# EAGLE library part AD8426ACPZ-R7 (library AD8426)
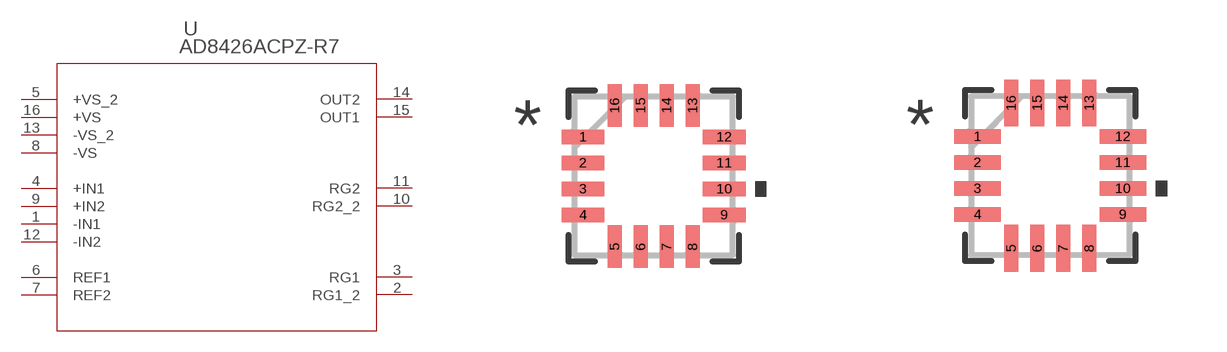
[diagram p0: symbol with the pads of CP_16_19; footprints CP_16_19, CP_16_19-M]

Designator prefix U

## AD8426ACPZ-R7 (MANUFACTURER_PART_NUMBER: AD8426ACPZR7; VENDOR: Analog Devices Inc)  [CP_16_19]
1  -IN1  pas
2  RG1_2  pas
3  RG1  pas
4  +IN1  pas
5  +VS_2  pas
6  REF1  pas
7  REF2  pas
8  -VS  pas
9  +IN2  pas
10  RG2_2  pas
11  RG2  pas
12  -IN2  pas
13  -VS_2  pas
14  OUT2  pas
15  OUT1  pas
16  +VS  pas

## AD8426ACPZ-R7CP_16_19-M (MANUFACTURER_PART_NUMBER: AD8426ACPZR7; VENDOR: Analog Devices Inc)  [CP_16_19-M]
Pads as for CP_16_19

## AD8426ACPZ-R7CP_16_19-L (MANUFACTURER_PART_NUMBER: AD8426ACPZR7; VENDOR: Analog Devices Inc)  [CP_16_19-L]
Pads as for CP_16_19

## Footprint CP_16_19 (pad centres in mm)
smd 1.067 x 0.356: 1 -1.765,0.975; 2 -1.765,0.325; 3 -1.765,-0.325; 4 -1.765,-0.975; 9 1.765,-0.975; 10 1.765,-0.325; 11 1.765,0.325; 12 1.765,0.975
smd 0.356 x 1.067: 5 -0.975,-1.765; 6 -0.325,-1.765; 7 0.325,-1.765; 8 0.975,-1.765; 13 0.975,1.765; 14 0.325,1.765; 15 -0.325,1.765; 16 -0.975,1.765

## Footprint CP_16_19-M (pad centres in mm)
smd 1.168 x 0.356: 1 -1.816,0.975; 2 -1.816,0.325; 3 -1.816,-0.325; 4 -1.816,-0.975; 9 1.816,-0.975; 10 1.816,-0.325; 11 1.816,0.325; 12 1.816,0.975
smd 0.356 x 1.168: 5 -0.975,-1.816; 6 -0.325,-1.816; 7 0.325,-1.816; 8 0.975,-1.816; 13 0.975,1.816; 14 0.325,1.816; 15 -0.325,1.816; 16 -0.975,1.816

## Footprint CP_16_19-L (pad centres in mm)
smd 0.965 x 0.356: 1 -1.714,0.975; 2 -1.714,0.325; 3 -1.714,-0.325; 4 -1.714,-0.975; 9 1.714,-0.975; 10 1.714,-0.325; 11 1.714,0.325; 12 1.714,0.975
smd 0.356 x 0.965: 5 -0.975,-1.714; 6 -0.325,-1.714; 7 0.325,-1.714; 8 0.975,-1.714; 13 0.975,1.714; 14 0.325,1.714; 15 -0.325,1.714; 16 -0.975,1.714